# Altium schematic symbol library CONBNC002.SchLib: 1 symbol
Pins are listed as number, name and electrical type; pins without a type are passive.

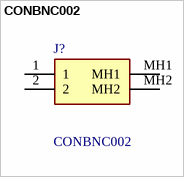
[diagram p0: symbol CONBNC002]

## CONBNC002
designator J?
RF Connectors / Coaxial Connectors BNC Connector Right Angle Jack, Female Socket 50 Ohm, Through Hole; Manufacturer_Name: Linx Technologies; Geometry.Height: 13.1mm; Mouser Part Number: 712-CONBNC002; Mouser Price/Stock: https://www.mouser.co.uk/ProductDetail/Linx-Technologies/CONBNC002?qs=doiCPypUmgFbIbY%252BDq4BiQ%3D%3D; Manufacturer_Part_Number: CONBNC002; Datasheet Link: https://linxtechnologies.com/wp/wp-content/uploads/conbnc002-ds.pdf
footprint CONBNC002
pins: 1, 2, MH1, MH2